# EAGLE library part RT44?* (library relay)
Power PCB Relay SCHRACK 2 pole 8 A, DC and AC-coil Source: http://www.schrack.com/.. 5842.pdf
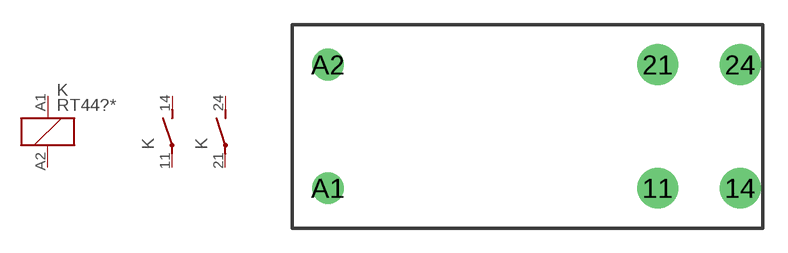
[diagram p152: symbol with the pads of RT2N/O; footprint RT2N/O]

Designator prefix K; gates 1=K 2=S 3=S

## RT444005 (MF: TYCO ELECTRONICS; MPN: 9-1393243-5; OC_FARNELL: unknown; OC_NEWARK: 16H8852), RT444006 (OC_FARNELL: unknown; OC_NEWARK: unknown), RT444012 (OC_FARNELL: unknown; OC_NEWARK: unknown), RT444024 (OC_FARNELL: unknown; OC_NEWARK: unknown), RT444048 (MPN: RT444048; OC_FARNELL: unknown; OC_NEWARK: 48M7994), RT444060 (OC_FARNELL: unknown; OC_NEWARK: unknown), RT444110 (OC_FARNELL: unknown; OC_NEWARK: unknown), RT444524 (MPN: RT444524; OC_FARNELL: unknown; OC_NEWARK: 16R6383), RT444615 (MF: TYCO ELECTRONICS; MPN: RT444615; OC_FARNELL: unknown; OC_NEWARK: 08H3757), RT444730 (OC_FARNELL: unknown; OC_NEWARK: unknown)  [RT2N/O]
11  2:P  pas
14  2:S  pas
21  3:P  pas
24  3:S  pas
A1  1:1  pas
A2  1:2  pas

## RT445005 (OC_FARNELL: unknown; OC_NEWARK: unknown), RT445006 (OC_FARNELL: unknown; OC_NEWARK: unknown), RT445012 (OC_FARNELL: unknown; OC_NEWARK: unknown), RT445024 (OC_FARNELL: unknown; OC_NEWARK: unknown), RT445048 (OC_FARNELL: unknown; OC_NEWARK: unknown), RT445060 (OC_FARNELL: unknown; OC_NEWARK: unknown), RT445110 (OC_FARNELL: unknown; OC_NEWARK: unknown), RT445524 (OC_FARNELL: unknown; OC_NEWARK: unknown), RT445615 (OC_FARNELL: unknown; OC_NEWARK: unknown), RT445730 (OC_FARNELL: unknown; OC_NEWARK: unknown)  [RT2N/O]
Pads as for RT2N/O

## Footprint RT2N/O (pad centres in mm)
Power PCB Relay DC and AC-coil SCHRACK 2 pole 8 A Source: http://www.schrack.com/.. 5842.pdf
drill 1.3 pad 2.5: 11 7.56,-3.78; 14 12.6,-3.78; 21 7.56,3.78; 24 12.6,3.78
drill 1.3: A1 -12.6,-3.78; A2 -12.6,3.78